# EAGLE library part LM324N (library SamacSys_Parts)
OP Amp Quad GP 16V/32V 14-Pin PDIP Texas Instruments LM324N, Quad Op Amp, 1.2MHz, 5-28 V, 14-Pin PDIP Source: Datasheet <http://www.ti.com/lit/ds/symlink/lm324-n.pdf>
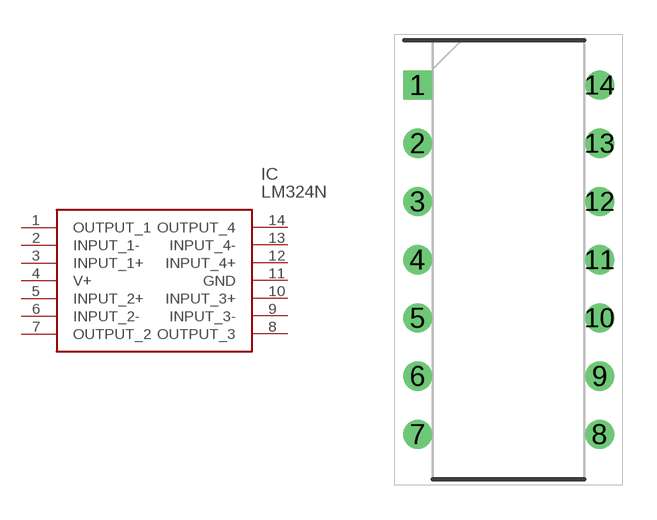
[diagram p1: symbol with the pads of DIP794W56P254L1905H533Q14N; footprint DIP794W56P254L1905H533Q14N]

Designator prefix IC

## LM324N (Arrow_Part_Number: LM324N; Arrow_Price-Stock: https://www.arrow.com/en/products/lm324n/texas-instruments; Description: OP Amp Quad GP 16V/32V 14-Pin PDIP Texas Instruments LM324N, Quad Op Amp, 1.2MHz, 5-28 V, 14-Pin PDIP; Height: 5.334mm; Manufacturer_Name: Texas Instruments; Manufacturer_Part_Number: LM324N; Mouser_Part_Number: 595-LM324N; Mouser_Price-Stock: https://www.mouser.co.uk/ProductDetail/Texas-Instruments/LM324N?qs=VolsR0DjNPqtt3qB38bTqw%3D%3D)  [DIP794W56P254L1905H533Q14N]
1  OUTPUT_1
2  INPUT_1-
3  INPUT_1+
4  V+
5  INPUT_2+
6  INPUT_2-
7  OUTPUT_2
8  OUTPUT_3
9  INPUT_3-
10  INPUT_3+
11  GND
12  INPUT_4+
13  INPUT_4-
14  OUTPUT_4

## Footprint DIP794W56P254L1905H533Q14N (pad centres in mm)
NFF0014A
drill 0.759 pad 1.159 square: 1 -3.969,7.62
drill 0.759 pad 1.159: 2 -3.969,5.08; 3 -3.969,2.54; 4 -3.969,0; 5 -3.969,-2.54; 6 -3.969,-5.08; 7 -3.969,-7.62; 8 3.969,-7.62; 9 3.969,-5.08; 10 3.969,-2.54; 11 3.969,0; 12 3.969,2.54; 13 3.969,5.08; 14 3.969,7.62